# EAGLE library part CR001B-K4_DEVICE (library CR001B-K4)
RFID reader module
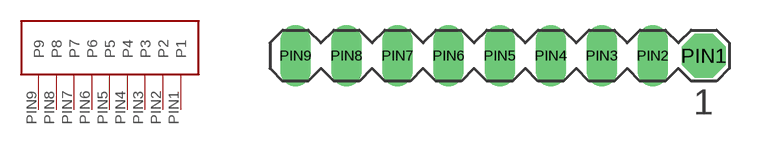
[diagram p0: symbol with the pads of MA09-1; footprint MA09-1]

Designator prefix -

## CR001B-K4_DEVICECR001B-K4  [MA09-1]
PIN1  P1
PIN2  P2
PIN3  P3
PIN4  P4
PIN5  P5
PIN6  P6
PIN7  P7
PIN8  P8
PIN9  P9

## Footprint MA09-1 (pad centres in mm)
PIN HEADER
drill 1.016 pad 2.184 octagon: PIN1 -0.046,0
drill 1.016 long: PIN2 -2.586,0; PIN3 -5.126,0; PIN4 -7.666,0; PIN5 -10.206,0; PIN6 -12.746,0; PIN7 -15.286,0; PIN8 -17.826,0; PIN9 -20.366,0